# Altium footprint library UWB_CAN.PcbLib: 15 footprints
Each footprint in its own frame and in the unit in brackets; x right, y up, seen from the top. Pads: shape width x height; smd on the part's side, far side on the other; paste and mask are expansions set on the pad; w line width, h text height; cw(c..) or ccw(c..) is an arc to the next point about the centre after c.
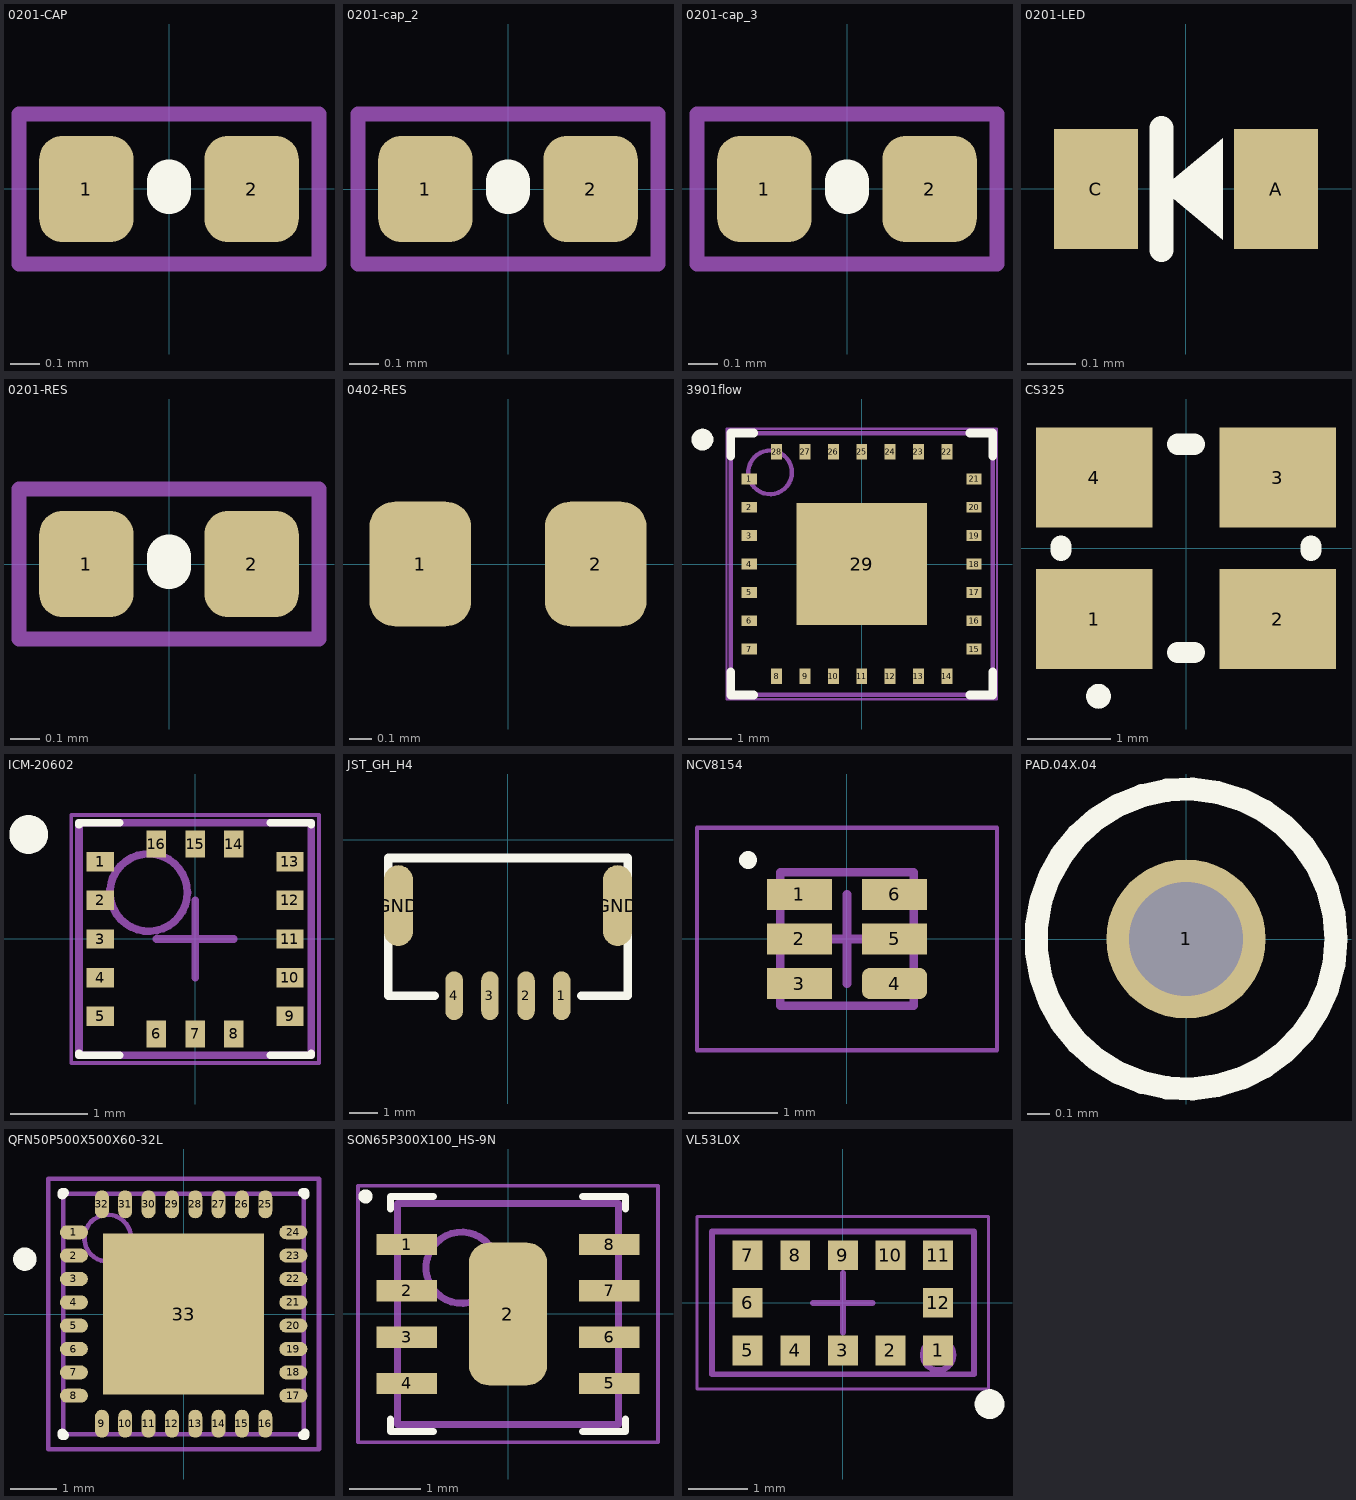
[diagram p0: the footprints below, top view; thin cyan lines are the x and y axes]

## 0201-CAP [mm]
pads (2):
  rrect50% 0.32x0.36 smd mask+0: 1(-0.28,0) 2(0.28,0)
Top Overlay:
  lines w0.15: 0,-0.01 0,0.025
Mechanical 16:
  lines w0.025: -0.508,-0.254 -0.508,0.254 0.508,0.254 0.508,-0.254 -0.508,-0.254
  lines w0.051: -0.508,-0.254 -0.508,0.254 0.508,0.254 0.508,-0.254 -0.508,-0.254
3D body "cap_0201.step": height 0.3, standoff 0, extent -0.3,-0.15 0.3,0.15

## 0201-cap_2 [mm]
pads (2):
  rrect50% 0.32x0.36 smd mask+0: 1(-0.28,0) 2(0.28,0)
Top Overlay:
  lines w0.15: 0,-0.01 0,0.025
Mechanical 16:
  lines w0.025: -0.508,-0.254 0.508,-0.254 0.508,0.254 -0.508,0.254 -0.508,-0.254
  lines w0.051: -0.508,-0.254 0.508,-0.254 0.508,0.254 -0.508,0.254 -0.508,-0.254
3D body "cap_0201.step": height 0.3, standoff 0, extent -0.3,-0.15 0.3,0.15

## 0201-cap_3 [mm]
pads (2):
  rrect50% 0.32x0.36 smd mask+0: 1(-0.28,0) 2(0.28,0)
Top Overlay:
  lines w0.15: 0,-0.01 0,0.025
Mechanical 16:
  lines w0.025: -0.508,-0.254 0.508,-0.254 0.508,0.254 -0.508,0.254 -0.508,-0.254
  lines w0.051: -0.508,-0.254 0.508,-0.254 0.508,0.254 -0.508,0.254 -0.508,-0.254
3D body "cap_0201.step": height 0.3, standoff 0, extent -0.3,-0.15 0.3,0.15

## 0201-LED [mm]
pads (2):
  rect 0.175x0.25 smd: A(0.188,0) C(-0.188,0)
Top Overlay:
  region: -0.051,0 0.076,0.106 0.076,-0.106
  lines w0.05: -0.051,-0.127 -0.051,0.127

## 0201-RES [mm]
pads (2):
  rrect50% 0.32x0.36 smd mask+0: 1(-0.28,0) 2(0.28,0)
Top Overlay:
  lines w0.15: 0,-0.01 0,0.025
Mechanical 16:
  lines w0.025: -0.508,-0.254 -0.508,0.254 0.508,0.254 0.508,-0.254 -0.508,-0.254
  lines w0.051: -0.508,-0.254 -0.508,0.254 0.508,0.254 0.508,-0.254 -0.508,-0.254
3D body "res_0201.step": height 0.12, standoff -0.12, extent -0.3,-0.15 0.3,0.15

## 0402-RES [mil] "0402-RES"
height 66.93
pads (2):
  rrect50% 18x22 smd mask+0: 1(-15.5,0) 2(15.5,0)
3D body "res_0402.STEP": height 19.68, standoff 0, extent -19.68,-9.84 19.68,9.84

## 3901flow [mm]
height 2.33
pads (29):
  rect 0.35x0.25 smd: 1(-2.575,1.95) 2(-2.575,1.3) 3(-2.575,0.65) 4(-2.575,0) 5(-2.575,-0.65) 6(-2.575,-1.3) 7(-2.575,-1.95) 15(2.575,-1.95) 16(2.575,-1.3) 17(2.575,-0.65) 18(2.575,0) 19(2.575,0.65) 20(2.575,1.3) 21(2.575,1.95)
  rect 0.25x0.35 smd: 8(-1.95,-2.575) 9(-1.3,-2.575) 10(-0.65,-2.575) 11(0,-2.575) 12(0.65,-2.575) 13(1.3,-2.575) 14(1.95,-2.575) 22(1.95,2.575) 23(1.3,2.575) 24(0.65,2.575) 25(0,2.575) 26(-0.65,2.575) 27(-1.3,2.575) 28(-1.95,2.575)
  rect 3x2.8 smd: 29(0,0)
Top Overlay:
  circle w0.25: c-3.65,2.85 r0.125
  lines w0.2: -3,-2.475 -3,-3 -2.475,-3 ; -3,2.475 -3,3 -2.475,3 ; 2.475,-3 3,-3 3,-2.475 ; 2.475,3 3,3 3,2.475
Mechanical 13:
  circle w0.1: c-2.1,2.1 r0.5
  lines w0.1: -3,-3 -3,3 3,3 3,-3 -3,-3
Mechanical 15:
  lines w0.05: -3.1,-3.1 -3.1,3.1 3.1,3.1 3.1,-3.1 -3.1,-3.1
  lines w0.1: -0.5,0 0.5,0 ; 0,-0.5 0,0.5
3D body "3901FLOW.STEP": height 2.23, standoff 0, extent -3,-3 3,3

## CS325 [mm] "3.2mm x 2.5mm Oscillator"
height 1.2
pads (5):
  rect 1.4x1.2 smd: 1(-1.1,-0.85) 2(1.1,-0.85) 3(1.1,0.85) 4(-1.1,0.85)
  round 0.3 on Top Overlay: ""(-1.05,-1.775)
Top Overlay:
  lines w0.254: -1.5,-0.025 -1.5,0.025 ; -0.1,-1.25 0.1,-1.25 ; -0.1,1.25 0.1,1.25 ; 1.5,-0.025 1.5,0.025
3D body "ABM8G.STEP": height 0.99, standoff 0, extent -1.6,-1.245 1.6,1.245

## ICM-20602 [mm]
height 0.75
pads (16):
  rect 0.35x0.25 smd: 1(-1.225,1) 2(-1.225,0.5) 3(-1.225,0) 4(-1.225,-0.5) 5(-1.225,-1) 9(1.225,-1) 10(1.225,-0.5) 11(1.225,0) 12(1.225,0.5) 13(1.225,1)
  rect 0.25x0.35 smd: 6(-0.5,-1.225) 7(0,-1.225) 8(0.5,-1.225) 14(0.5,1.225) 15(0,1.225) 16(-0.5,1.225)
Top Overlay:
  circle w0.25: c-2.15,1.35 r0.125
  lines w0.1: -1.5,-1.475 -1.5,-1.5 -0.975,-1.5 ; -1.5,1.475 -1.5,1.5 -0.975,1.5 ; 0.975,-1.5 1.5,-1.5 1.5,-1.475 ; 0.975,1.5 1.5,1.5 1.5,1.475
Mechanical 13:
  circle w0.1: c-0.6,0.6 r0.5
  lines w0.1: -1.5,-1.5 1.5,-1.5 1.5,1.5 -1.5,1.5 -1.5,-1.5
Mechanical 15:
  lines w0.05: -1.6,-1.6 1.6,-1.6 1.6,1.6 -1.6,1.6 -1.6,-1.6
  lines w0.1: -0.5,0 0.5,0 ; 0,-0.5 0,0.5
3D body "ICM-20602.step": height 0.75, standoff 0, extent -1.5,-1.5 1.5,1.5

## JST_GH_H4 [mil]
pads (6):
  rrect100% 24x67 smd: 1(74,-214.57) 2(25,-214.57) 3(-24.61,-214.57) 4(-73.82,-214.57)
  rrect100% 40x111 smd: GND(-150.59,-90.55) GND(151,-90.55)
Top Overlay:
  lines w12: -100.79,-214.57 -164.37,-214.57 -164.37,-25 165,-25 165,-214.57 101,-214.57
  text "." at 110,-225 h155
3D body "SM04B-GHS-TB.STEP": height 170.32, standoff -0.94, extent -161.63,-234.26 163.17,-43.31

## NCV8154 [mm] "ldo 1.8v 2.8v"
height 0.7
pads (6):
  rect 0.73x0.35 smd: 1(-0.535,0.5) 2(-0.535,0) 3(-0.535,-0.5) 5(0.535,0) 6(0.535,0.5)
  rrect50% 0.73x0.35 smd: 4(0.535,-0.5)
Top Overlay:
  circle w0.1: c-1.112,0.887 r0.05
Mechanical 13:
  lines w0.1: -0.75,-0.75 -0.75,0.75 0.75,0.75 0.75,-0.75 -0.75,-0.75
Mechanical 15:
  lines w0.05: -1.685,-1.25 -1.685,1.25 1.685,1.25 1.685,-1.25 -1.685,-1.25
  lines w0.1: -0.5,0 0.5,0 ; 0,-0.5 0,0.5

## PAD.04X.04 [mm]
height 1.7
pads (1):
  rrect100% 0.7x0.7 hole 0.5 paste-2: 1(0,0)
Top Overlay:
  circle w0.102: c0,0 r0.66

## QFN50P500X500X60-32L [mm] "QFN, 32-Leads, Body 5.2x5.2mm (max), Pitch 0.50mm, IPC High Density"
height 0.6
pads (33):
  oval 0.6x0.3 smd: 1(-2.35,1.75) 2(-2.35,1.25) 3(-2.35,0.75) 4(-2.35,0.25) 5(-2.35,-0.25) 6(-2.35,-0.75) 7(-2.35,-1.25) 8(-2.35,-1.75) 17(2.35,-1.75) 18(2.35,-1.25) 19(2.35,-0.75) 20(2.35,-0.25) 21(2.35,0.25) 22(2.35,0.75) 23(2.35,1.25) 24(2.35,1.75)
  oval 0.3x0.6 smd: 9(-1.75,-2.35) 10(-1.25,-2.35) 11(-0.75,-2.35) 12(-0.25,-2.35) 13(0.25,-2.35) 14(0.75,-2.35) 15(1.25,-2.35) 16(1.75,-2.35) 25(1.75,2.35) 26(1.25,2.35) 27(0.75,2.35) 28(0.25,2.35) 29(-0.25,2.35) 30(-0.75,2.35) 31(-1.25,2.35) 32(-1.75,2.35)
  rect 3.45x3.45 smd: 33(0,0)
Top Overlay:
  circle w0.25: c-3.4,1.175 r0.125
  lines w0.2: -2.6,-2.55 -2.6,-2.6 -2.55,-2.6 ; -2.6,2.55 -2.6,2.6 -2.55,2.6 ; 2.55,-2.6 2.6,-2.6 2.6,-2.55 ; 2.55,2.6 2.6,2.6 2.6,2.55
Mechanical 13:
  circle w0.1: c-1.625,1.625 r0.5
  lines w0.1: -2.575,-2.575 -2.575,2.575 2.575,2.575 2.575,-2.575 -2.575,-2.575
Mechanical 15:
  lines w0.1: -0.5,0 0.5,0 ; 0,-0.5 0,0.5 ; -2.9,-2.9 -2.9,2.9 2.9,2.9 2.9,-2.9 -2.9,-2.9
3D body: height 0.6, standoff 0, extent -2.575,-2.575 2.575,2.575

## SON65P300X100_HS-9N [mm] "SON, 8-Leads, Body 3.00x3.00mm, Pitch 0.65mm, Thermal Pad 2.40x1.59mm, IPC Medium Density"
height 1
pads (9):
  rect 0.85x0.3 smd: 1(-1.42,0.975) 2(-1.42,0.325) 3(-1.42,-0.325) 4(-1.42,-0.975) 5(1.42,-0.975) 6(1.42,-0.325) 7(1.42,0.325) 8(1.42,0.975)
  rrect50% 1.1x2 smd paste-0.795: 2(0,0)
Top Overlay:
  circle w0.1: c-2,1.65 r0.05
  lines w0.1: -1.65,-1.475 -1.65,-1.65 -1.045,-1.65 ; -1.65,1.475 -1.65,1.65 -1.045,1.65 ; 1.045,-1.65 1.65,-1.65 1.65,-1.475 ; 1.045,1.65 1.65,1.65 1.65,1.475
Top Paste:
  rectangle: 0.1,-1.2 0.55,-0.75
  rectangle: 0.1,-0.55 0.55,-0.1
  rectangle: 0.1,0.1 0.55,0.55
  rectangle: 0.1,0.75 0.55,1.2
  rectangle: -0.55,-1.2 -0.1,-0.75
  rectangle: -0.55,-0.55 -0.1,-0.1
  rectangle: -0.55,0.1 -0.1,0.55
  rectangle: -0.55,0.75 -0.1,1.2
Mechanical 13:
  circle w0.1: c-0.65,0.65 r0.5
  lines w0.1: -1.55,-1.55 1.55,-1.55 1.55,1.55 -1.55,1.55 -1.55,-1.55
Mechanical 15:
  lines w0.05: -2.105,-1.8 2.105,-1.8 2.105,1.8 -2.105,1.8 -2.105,-1.8
  lines w0.1: -0.5,0 0.5,0 ; 0,-0.5 0,0.5
3D body: height 1, standoff 0, extent -1.55,-1.55 1.55,1.55

## VL53L0X [mm] "LIDAR"
height 1
pads (12):
  rect 0.5x0.5 smd: 1(1.6,-0.8) 2(0.8,-0.8) 3(0,-0.8) 4(-0.8,-0.8) 5(-1.6,-0.8) 6(-1.6,0) 7(-1.6,0.8) 8(-0.8,0.8) 9(0,0.8) 10(0.8,0.8) 11(1.6,0.8) 12(1.6,0)
Top Overlay:
  circle w0.25: c2.464,-1.702 r0.125
Mechanical 13:
  circle w0.1: c1.6,-0.875 r0.257
  lines w0.1: -2.2,-1.2 -2.2,1.2 2.2,1.2 2.2,-1.2 -2.2,-1.2
Mechanical 15:
  lines w0.05: -2.45,-1.45 -2.45,1.45 2.45,1.45 2.45,-1.45 -2.45,-1.45
  lines w0.1: -0.5,0 0.5,0 ; 0,-0.5 0,0.5
3D body "VL53L0X.STEP": height 1, standoff -0.01, extent -2.2,-1.2 2.2,1.2